# Altium footprint library Altera.PcbLib: 6 footprints (part 5 of 6)
Each footprint in its own frame and in the unit in brackets; x right, y up, seen from the top. Pads: shape width x height; smd on the part's side, far side on the other; paste and mask are expansions set on the pad; w line width, h text height; cw(c..) or ccw(c..) is an arc to the next point about the centre after c.
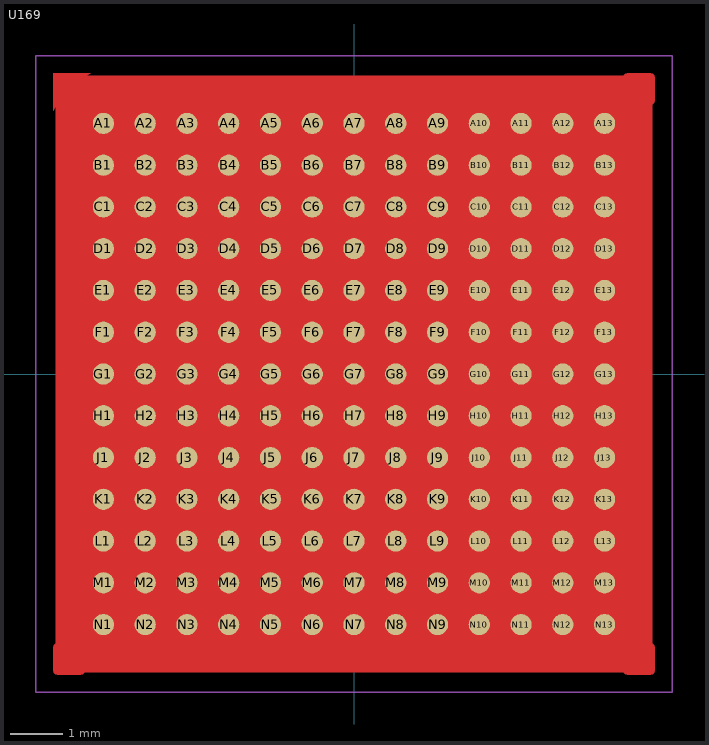
[diagram p4: the footprint, top view; thin cyan lines are the x and y axes]

## U169 [mil]
pads (169):
  round 16 smd mask+1.5: A1(-188.98,188.98) A2(-157.48,188.98) A3(-125.98,188.98) A4(-94.49,188.98) A5(-62.99,188.98) A6(-31.5,188.98) A7(0,188.98) A8(31.5,188.98) A9(62.99,188.98) A10(94.49,188.98) A11(125.98,188.98) A12(157.48,188.98) A13(188.98,188.98) B1(-188.98,157.48) B2(-157.48,157.48) B3(-125.98,157.48) B4(-94.49,157.48) B5(-62.99,157.48) B6(-31.5,157.48) B7(0,157.48) B8(31.5,157.48) B9(62.99,157.48) B10(94.49,157.48) B11(125.98,157.48) B12(157.48,157.48) B13(188.98,157.48) C1(-188.98,125.98) C2(-157.48,125.98) C3(-125.98,125.98) C4(-94.49,125.98) C5(-62.99,125.98) C6(-31.5,125.98) C7(0,125.98) C8(31.5,125.98) C9(62.99,125.98) C10(94.49,125.98) C11(125.98,125.98) C12(157.48,125.98) C13(188.98,125.98) D1(-188.98,94.49) D2(-157.48,94.49) D3(-125.98,94.49) D4(-94.49,94.49) D5(-62.99,94.49) D6(-31.5,94.49) D7(0,94.49) D8(31.5,94.49) D9(62.99,94.49) D10(94.49,94.49) D11(125.98,94.49) D12(157.48,94.49) D13(188.98,94.49) E1(-188.98,62.99) E2(-157.48,62.99) E3(-125.98,62.99) E4(-94.49,62.99) E5(-62.99,62.99) E6(-31.5,62.99) E7(0,62.99) E8(31.5,62.99) E9(62.99,62.99) E10(94.49,62.99) E11(125.98,62.99) E12(157.48,62.99) E13(188.98,62.99) F1(-188.98,31.5) F2(-157.48,31.5) F3(-125.98,31.5) F4(-94.49,31.5) F5(-62.99,31.5) F6(-31.5,31.5) F7(0,31.5) F8(31.5,31.5) F9(62.99,31.5) F10(94.49,31.5) F11(125.98,31.5) F12(157.48,31.5) F13(188.98,31.5) G1(-188.98,0) G2(-157.48,0) G3(-125.98,0) G4(-94.49,0) G5(-62.99,0) G6(-31.5,0) G7(0,0) G8(31.5,0) G9(62.99,0) G10(94.49,0) G11(125.98,0) G12(157.48,0) G13(188.98,0) H1(-188.98,-31.5) H2(-157.48,-31.5) H3(-125.98,-31.5) H4(-94.49,-31.5) H5(-62.99,-31.5) H6(-31.5,-31.5) H7(0,-31.5) H8(31.5,-31.5) H9(62.99,-31.5) H10(94.49,-31.5) H11(125.98,-31.5) H12(157.48,-31.5) H13(188.98,-31.5) J1(-188.98,-62.99) J2(-157.48,-62.99) J3(-125.98,-62.99) J4(-94.49,-62.99) J5(-62.99,-62.99) J6(-31.5,-62.99) J7(0,-62.99) J8(31.5,-62.99) J9(62.99,-62.99) J10(94.49,-62.99) J11(125.98,-62.99) J12(157.48,-62.99) J13(188.98,-62.99) K1(-188.98,-94.49) K2(-157.48,-94.49) K3(-125.98,-94.49) K4(-94.49,-94.49) K5(-62.99,-94.49) K6(-31.5,-94.49) K7(0,-94.49) K8(31.5,-94.49) K9(62.99,-94.49) K10(94.49,-94.49) K11(125.98,-94.49) K12(157.48,-94.49) K13(188.98,-94.49) L1(-188.98,-125.98) L2(-157.48,-125.98) L3(-125.98,-125.98) L4(-94.49,-125.98) L5(-62.99,-125.98) L6(-31.5,-125.98) L7(0,-125.98) L8(31.5,-125.98) L9(62.99,-125.98) L10(94.49,-125.98) L11(125.98,-125.98) L12(157.48,-125.98) L13(188.98,-125.98) M1(-188.98,-157.48) M2(-157.48,-157.48) M3(-125.98,-157.48) M4(-94.49,-157.48) M5(-62.99,-157.48) M6(-31.5,-157.48) M7(0,-157.48) M8(31.5,-157.48) M9(62.99,-157.48) M10(94.49,-157.48) M11(125.98,-157.48) M12(157.48,-157.48) M13(188.98,-157.48) N1(-188.98,-188.98) N2(-157.48,-188.98) N3(-125.98,-188.98) N4(-94.49,-188.98) N5(-62.99,-188.98) N6(-31.5,-188.98) N7(0,-188.98) N8(31.5,-188.98) N9(62.99,-188.98) N10(94.49,-188.98) N11(125.98,-188.98) N12(157.48,-188.98) N13(188.98,-188.98)
Top Layer:
  pour cut-out: -225,-225 -225,225 225,225 225,-225
  region: -219,-207 -219,-206.2 -219.61,-204.73 -220.73,-203.61 -222.2,-203 -223,-203 -223.79,-203 -225.26,-203.61 -226.39,-204.73 -227,-206.2 -227,-207 -227,-223 -227,-223.8 -226.39,-225.27 -225.26,-226.39 -223.79,-227 -223,-227 -207,-227 -206.2,-227 -204.73,-226.39 -203.61,-225.27 -203,-223.8 -203,-223 -203,-222.2 -203.61,-220.73 -204.73,-219.61 -206.2,-219 -207,-219 -217,-219 -217.39,-218.96 -218.11,-218.66 -218.66,-218.11 -218.96,-217.39 -219,-217
  region: 207,-219 206.21,-219 204.74,-219.61 203.61,-220.73 203,-222.2 203,-223 203,-223.79 203.61,-225.26 204.74,-226.39 206.21,-227 207,-227 223,-227 223.8,-227 225.27,-226.39 226.39,-225.26 227,-223.79 227,-223 227,-207 227,-206.2 226.39,-204.73 225.27,-203.61 223.8,-203 223,-203 222.21,-203 220.74,-203.61 219.61,-204.73 219,-206.2 219,-207 219,-217 218.96,-217.39 218.66,-218.11 218.11,-218.66 217.39,-218.96 217,-219
  region: 219,207 219,206.2 219.61,204.73 220.73,203.61 222.2,203 223,203 223.79,203 225.26,203.61 226.39,204.73 227,206.2 227,207 227,223 227,223.8 226.39,225.27 225.26,226.39 223.79,227 223,227 207,227 206.2,227 204.73,226.39 203.61,225.27 203,223.8 203,223 203,222.2 203.61,220.73 204.73,219.61 206.2,219 207,219 217,219 217.39,218.96 218.11,218.66 218.66,218.11 218.96,217.39 219,217
  region: -227,227 -227,198.46 -216.54,216.54 -198.46,227
Top Designator:
  text ".Designator" at -127.64,-12.5 h35
Top Courtyard:
  lines w1: -240,-240 240,-240 240,240 -240,240 -240,-240
Top Component Outline:
  lines w1: -216.54,-216.54 216.54,-216.54 216.54,216.54 -216.54,216.54 -216.54,-216.54
3D body: height 23.62, standoff 11.81, extent -216.54,-216.54 216.54,216.54
3D body: height 16.84, standoff -2.84, extent -167.28,179.24 -147.68,198.83
3D body: height 16.84, standoff -2.84, extent -135.79,179.24 -116.19,198.83
3D body: height 16.84, standoff -2.84, extent -104.29,179.24 -84.69,198.83
3D body: height 16.84, standoff -2.84, extent -72.8,179.24 -53.19,198.83
3D body: height 16.84, standoff -2.84, extent 53.19,179.24 72.79,198.83
3D body: height 16.84, standoff -2.84, extent 21.69,179.24 41.3,198.83
3D body: height 16.84, standoff -2.84, extent -9.8,179.24 9.8,198.83
3D body: height 16.84, standoff -2.84, extent -41.3,179.24 -21.7,198.83
3D body: height 16.84, standoff -2.84, extent 179.17,179.24 198.78,198.83
3D body: height 16.84, standoff -2.84, extent 147.68,179.24 167.28,198.83
3D body: height 16.84, standoff -2.84, extent 116.18,179.24 135.78,198.83
3D body: height 16.84, standoff -2.84, extent 84.68,179.24 104.29,198.83
3D body: height 16.84, standoff -2.84, extent 84.68,147.75 104.29,167.33
3D body: height 16.84, standoff -2.84, extent 116.18,147.75 135.78,167.33
3D body: height 16.84, standoff -2.84, extent 147.68,147.75 167.28,167.33
3D body: height 16.84, standoff -2.84, extent 179.17,147.75 198.78,167.33
3D body: height 16.84, standoff -2.84, extent -41.3,147.75 -21.7,167.33
3D body: height 16.84, standoff -2.84, extent -9.8,147.75 9.8,167.33
3D body: height 16.84, standoff -2.84, extent 21.69,147.75 41.3,167.33
3D body: height 16.84, standoff -2.84, extent 53.19,147.75 72.79,167.33
3D body: height 16.84, standoff -2.84, extent -72.8,147.75 -53.19,167.33
3D body: height 16.84, standoff -2.84, extent -104.29,147.75 -84.69,167.33
3D body: height 16.84, standoff -2.84, extent -135.79,147.75 -116.19,167.33
3D body: height 16.84, standoff -2.84, extent -167.28,147.75 -147.68,167.33
3D body: height 16.84, standoff -2.84, extent 84.68,116.25 104.29,135.83
3D body: height 16.84, standoff -2.84, extent 116.18,116.25 135.78,135.83
3D body: height 16.84, standoff -2.84, extent 147.68,116.25 167.28,135.83
3D body: height 16.84, standoff -2.84, extent 179.17,116.25 198.78,135.83
3D body: height 16.84, standoff -2.84, extent -41.3,116.25 -21.7,135.83
3D body: height 16.84, standoff -2.84, extent -9.8,116.25 9.8,135.83
3D body: height 16.84, standoff -2.84, extent 21.69,116.25 41.3,135.83
3D body: height 16.84, standoff -2.84, extent 53.19,116.25 72.79,135.83
3D body: height 16.84, standoff -2.84, extent -72.8,116.25 -53.19,135.83
3D body: height 16.84, standoff -2.84, extent -104.29,116.25 -84.69,135.83
3D body: height 16.84, standoff -2.84, extent -135.79,116.25 -116.19,135.83
3D body: height 16.84, standoff -2.84, extent -167.28,116.25 -147.68,135.83
3D body: height 16.84, standoff -2.84, extent 84.68,84.75 104.29,104.34
3D body: height 16.84, standoff -2.84, extent 116.18,84.75 135.78,104.34
3D body: height 16.84, standoff -2.84, extent 147.68,84.75 167.28,104.34
3D body: height 16.84, standoff -2.84, extent 179.17,84.75 198.78,104.34
3D body: height 16.84, standoff -2.84, extent -41.3,84.75 -21.7,104.34
3D body: height 16.84, standoff -2.84, extent -9.8,84.75 9.8,104.34
3D body: height 16.84, standoff -2.84, extent 21.69,84.75 41.3,104.34
3D body: height 16.84, standoff -2.84, extent 53.19,84.75 72.79,104.34
3D body: height 16.84, standoff -2.84, extent -72.8,84.75 -53.19,104.34
3D body: height 16.84, standoff -2.84, extent -104.29,84.75 -84.69,104.34
3D body: height 16.84, standoff -2.84, extent -135.79,84.75 -116.19,104.34
3D body: height 16.84, standoff -2.84, extent -167.28,84.75 -147.68,104.34
3D body: height 16.84, standoff -2.84, extent 84.68,53.26 104.29,72.84
3D body: height 16.84, standoff -2.84, extent 116.18,53.26 135.78,72.84
3D body: height 16.84, standoff -2.84, extent 147.68,53.26 167.28,72.84
3D body: height 16.84, standoff -2.84, extent 179.17,53.26 198.78,72.84
3D body: height 16.84, standoff -2.84, extent -41.3,53.26 -21.7,72.84
3D body: height 16.84, standoff -2.84, extent -9.8,53.26 9.8,72.84
3D body: height 16.84, standoff -2.84, extent 21.69,53.26 41.3,72.84
3D body: height 16.84, standoff -2.84, extent 53.19,53.26 72.79,72.84
3D body: height 16.84, standoff -2.84, extent -72.8,53.26 -53.19,72.84
3D body: height 16.84, standoff -2.84, extent -104.29,53.26 -84.69,72.84
3D body: height 16.84, standoff -2.84, extent -135.79,53.26 -116.19,72.84
3D body: height 16.84, standoff -2.84, extent -167.28,53.26 -147.68,72.84
3D body: height 16.84, standoff -2.84, extent -167.28,-104.22 -147.68,-84.64
3D body: height 16.84, standoff -2.84, extent -135.79,-104.22 -116.19,-84.64
3D body: height 16.84, standoff -2.84, extent -104.29,-104.22 -84.69,-84.64
3D body: height 16.84, standoff -2.84, extent -72.8,-104.22 -53.19,-84.64
3D body: height 16.84, standoff -2.84, extent 53.19,-104.22 72.79,-84.64
3D body: height 16.84, standoff -2.84, extent 21.69,-104.22 41.3,-84.64
3D body: height 16.84, standoff -2.84, extent -9.8,-104.22 9.8,-84.64
3D body: height 16.84, standoff -2.84, extent -41.3,-104.22 -21.7,-84.64
3D body: height 16.84, standoff -2.84, extent 179.17,-104.22 198.78,-84.64
3D body: height 16.84, standoff -2.84, extent 147.68,-104.22 167.28,-84.64
3D body: height 16.84, standoff -2.84, extent 116.18,-104.22 135.78,-84.64
3D body: height 16.84, standoff -2.84, extent 84.68,-104.22 104.29,-84.64
3D body: height 16.84, standoff -2.84, extent -167.28,-72.73 -147.68,-53.14
3D body: height 16.84, standoff -2.84, extent -135.79,-72.73 -116.19,-53.14
3D body: height 16.84, standoff -2.84, extent -104.29,-72.73 -84.69,-53.14
3D body: height 16.84, standoff -2.84, extent -72.8,-72.73 -53.19,-53.14
3D body: height 16.84, standoff -2.84, extent 53.19,-72.73 72.79,-53.14
3D body: height 16.84, standoff -2.84, extent 21.69,-72.73 41.3,-53.14
3D body: height 16.84, standoff -2.84, extent -9.8,-72.73 9.8,-53.14
3D body: height 16.84, standoff -2.84, extent -41.3,-72.73 -21.7,-53.14
3D body: height 16.84, standoff -2.84, extent 179.17,-72.73 198.78,-53.14
3D body: height 16.84, standoff -2.84, extent 147.68,-72.73 167.28,-53.14
3D body: height 16.84, standoff -2.84, extent 116.18,-72.73 135.78,-53.14
3D body: height 16.84, standoff -2.84, extent 84.68,-72.73 104.29,-53.14
3D body: height 16.84, standoff -2.84, extent -167.28,-41.23 -147.68,-21.65
3D body: height 16.84, standoff -2.84, extent -135.79,-41.23 -116.19,-21.65
3D body: height 16.84, standoff -2.84, extent -104.29,-41.23 -84.69,-21.65
3D body: height 16.84, standoff -2.84, extent -72.8,-41.23 -53.19,-21.65
3D body: height 16.84, standoff -2.84, extent 53.19,-41.23 72.79,-21.65
3D body: height 16.84, standoff -2.84, extent 21.69,-41.23 41.3,-21.65
3D body: height 16.84, standoff -2.84, extent -9.8,-41.23 9.8,-21.65
3D body: height 16.84, standoff -2.84, extent -41.3,-41.23 -21.7,-21.65
3D body: height 16.84, standoff -2.84, extent 179.17,-41.23 198.78,-21.65
3D body: height 16.84, standoff -2.84, extent 147.68,-41.23 167.28,-21.65
3D body: height 16.84, standoff -2.84, extent 116.18,-41.23 135.78,-21.65
3D body: height 16.84, standoff -2.84, extent 84.68,-41.23 104.29,-21.65
3D body: height 16.84, standoff -2.84, extent -167.28,-9.73 -147.68,9.85
3D body: height 16.84, standoff -2.84, extent -135.79,-9.73 -116.19,9.85
3D body: height 16.84, standoff -2.84, extent -104.29,-9.73 -84.69,9.85
3D body: height 16.84, standoff -2.84, extent -72.8,-9.73 -53.19,9.85
3D body: height 16.84, standoff -2.84, extent 53.19,-9.73 72.79,9.85
3D body: height 16.84, standoff -2.84, extent 21.69,-9.73 41.3,9.85
3D body: height 16.84, standoff -2.84, extent -9.8,-9.73 9.8,9.85
3D body: height 16.84, standoff -2.84, extent -41.3,-9.73 -21.7,9.85
3D body: height 16.84, standoff -2.84, extent 179.17,-9.73 198.78,9.85
3D body: height 16.84, standoff -2.84, extent 147.68,-9.73 167.28,9.85
3D body: height 16.84, standoff -2.84, extent 116.18,-9.73 135.78,9.85
3D body: height 16.84, standoff -2.84, extent 84.68,-9.73 104.29,9.85
3D body: height 16.84, standoff -2.84, extent 84.68,21.76 104.29,41.35
3D body: height 16.84, standoff -2.84, extent 116.18,21.76 135.78,41.35
3D body: height 16.84, standoff -2.84, extent 147.68,21.76 167.28,41.35
3D body: height 16.84, standoff -2.84, extent 179.17,21.76 198.78,41.35
3D body: height 16.84, standoff -2.84, extent -41.3,21.76 -21.7,41.35
3D body: height 16.84, standoff -2.84, extent -9.8,21.76 9.8,41.35
3D body: height 16.84, standoff -2.84, extent 21.69,21.76 41.3,41.35
3D body: height 16.84, standoff -2.84, extent 53.19,21.76 72.79,41.35
3D body: height 16.84, standoff -2.84, extent -72.8,21.76 -53.19,41.35
3D body: height 16.84, standoff -2.84, extent -104.29,21.76 -84.69,41.35
3D body: height 16.84, standoff -2.84, extent -135.79,21.76 -116.19,41.35
3D body: height 16.84, standoff -2.84, extent -167.28,21.76 -147.68,41.35
3D body: height 16.84, standoff -2.84, extent -167.28,-198.71 -147.68,-179.13
3D body: height 16.84, standoff -2.84, extent -135.79,-198.71 -116.19,-179.13
3D body: height 16.84, standoff -2.84, extent -104.29,-198.71 -84.69,-179.13
3D body: height 16.84, standoff -2.84, extent -72.8,-198.71 -53.19,-179.13
3D body: height 16.84, standoff -2.84, extent 53.19,-198.71 72.79,-179.13
3D body: height 16.84, standoff -2.84, extent 21.69,-198.71 41.3,-179.13
3D body: height 16.84, standoff -2.84, extent -9.8,-198.71 9.8,-179.13
3D body: height 16.84, standoff -2.84, extent -41.3,-198.71 -21.7,-179.13
3D body: height 16.84, standoff -2.84, extent 179.17,-198.71 198.78,-179.13
3D body: height 16.84, standoff -2.84, extent 147.68,-198.71 167.28,-179.13
3D body: height 16.84, standoff -2.84, extent 116.18,-198.71 135.78,-179.13
3D body: height 16.84, standoff -2.84, extent 84.68,-198.71 104.29,-179.13
3D body: height 16.84, standoff -2.84, extent -167.28,-167.21 -147.68,-147.63
3D body: height 16.84, standoff -2.84, extent -135.79,-167.21 -116.19,-147.63
3D body: height 16.84, standoff -2.84, extent -104.29,-167.21 -84.69,-147.63
3D body: height 16.84, standoff -2.84, extent -72.8,-167.21 -53.19,-147.63
3D body: height 16.84, standoff -2.84, extent 53.19,-167.21 72.79,-147.63
3D body: height 16.84, standoff -2.84, extent 21.69,-167.21 41.3,-147.63
3D body: height 16.84, standoff -2.84, extent -9.8,-167.21 9.8,-147.63
3D body: height 16.84, standoff -2.84, extent -41.3,-167.21 -21.7,-147.63
3D body: height 16.84, standoff -2.84, extent 179.17,-167.21 198.78,-147.63
3D body: height 16.84, standoff -2.84, extent 147.68,-167.21 167.28,-147.63
3D body: height 16.84, standoff -2.84, extent 116.18,-167.21 135.78,-147.63
3D body: height 16.84, standoff -2.84, extent 84.68,-167.21 104.29,-147.63
3D body: height 16.84, standoff -2.84, extent 84.68,-135.72 104.29,-116.13
3D body: height 16.84, standoff -2.84, extent 116.18,-135.72 135.78,-116.13
3D body: height 16.84, standoff -2.84, extent 147.68,-135.72 167.28,-116.13
3D body: height 16.84, standoff -2.84, extent 179.17,-135.72 198.78,-116.13
3D body: height 16.84, standoff -2.84, extent -41.3,-135.72 -21.7,-116.13
3D body: height 16.84, standoff -2.84, extent -9.8,-135.72 9.8,-116.13
3D body: height 16.84, standoff -2.84, extent 21.69,-135.72 41.3,-116.13
3D body: height 16.84, standoff -2.84, extent 53.19,-135.72 72.79,-116.13
3D body: height 16.84, standoff -2.84, extent -72.8,-135.72 -53.19,-116.13
3D body: height 16.84, standoff -2.84, extent -104.29,-135.72 -84.69,-116.13
3D body: height 16.84, standoff -2.84, extent -135.79,-135.72 -116.19,-116.13
3D body: height 16.84, standoff -2.84, extent -167.28,-135.72 -147.68,-116.13
3D body: height 16.84, standoff -2.84, extent -198.78,-135.72 -179.18,-116.13
3D body: height 16.84, standoff -2.84, extent -198.78,-167.21 -179.18,-147.63
3D body: height 16.84, standoff -2.84, extent -198.78,-198.71 -179.18,-179.13
3D body: height 16.84, standoff -2.84, extent -198.78,21.76 -179.18,41.35
3D body: height 16.84, standoff -2.84, extent -198.78,-9.73 -179.18,9.85
3D body: height 16.84, standoff -2.84, extent -198.78,-41.23 -179.18,-21.65
3D body: height 16.84, standoff -2.84, extent -198.78,-72.73 -179.18,-53.14
3D body: height 16.84, standoff -2.84, extent -198.78,-104.22 -179.18,-84.64
3D body: height 16.84, standoff -2.84, extent -198.78,53.26 -179.18,72.84
3D body: height 16.84, standoff -2.84, extent -198.78,84.75 -179.18,104.34
3D body: height 16.84, standoff -2.84, extent -198.78,116.25 -179.18,135.83
3D body: height 16.84, standoff -2.84, extent -198.78,147.75 -179.18,167.33
3D body: height 66.93, standoff 23.62, extent -216.54,-216.53 216.54,216.54
3D body: height 16.84, standoff -2.84, extent -198.78,179.24 -179.18,198.83